# Altium footprint library QFN42.PcbLib: 1 footprints
Each footprint in its own frame and in the unit in brackets; x right, y up, seen from the top. Pads: shape width x height; smd on the part's side, far side on the other; paste and mask are expansions set on the pad; w line width, h text height; cw(c..) or ccw(c..) is an arc to the next point about the centre after c.
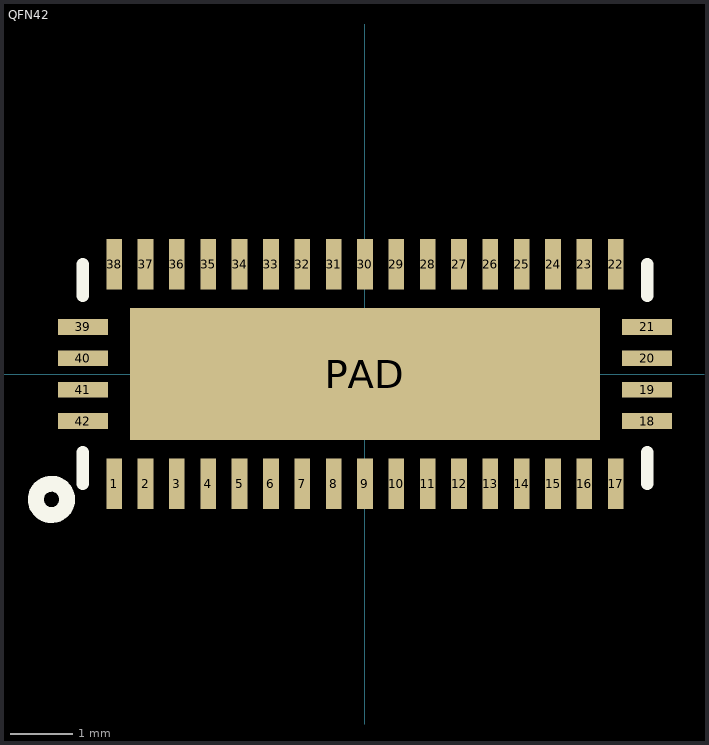
[diagram p0: the footprint, top view; thin cyan lines are the x and y axes]

## QFN42 [mm]
pads (43):
  rect 0.25x0.8 smd: 1(-4,-1.75) 2(-3.5,-1.75) 3(-3,-1.75) 4(-2.5,-1.75) 5(-2,-1.75) 6(-1.5,-1.75) 7(-1,-1.75) 8(-0.5,-1.75) 9(0,-1.75) 10(0.5,-1.75) 11(1,-1.75) 12(1.5,-1.75) 13(2,-1.75) 14(2.5,-1.75) 15(3,-1.75) 16(3.5,-1.75) 17(4,-1.75) 22(4,1.75) 23(3.5,1.75) 24(3,1.75) 25(2.5,1.75) 26(2,1.75) 27(1.5,1.75) 28(1,1.75) 29(0.5,1.75) 30(0,1.75) 31(-0.5,1.75) 32(-1,1.75) 33(-1.5,1.75) 34(-2,1.75) 35(-2.5,1.75) 36(-3,1.75) 37(-3.5,1.75) 38(-4,1.75)
  rect 0.8x0.25 smd: 18(4.5,-0.75) 19(4.5,-0.25) 20(4.5,0.25) 21(4.5,0.75) 39(-4.5,0.75) 40(-4.5,0.25) 41(-4.5,-0.25) 42(-4.5,-0.75)
  rect 7.5x2.1 smd paste-20: PAD(0,0)
Top Overlay:
  circle w0.254: c-5,-2 r0.25
  lines w0.2: -4.5,-1.75 -4.5,-1.25 ; -4.5,1.25 -4.5,1.75 ; 4.5,-1.75 4.5,-1.25 ; 4.5,1.25 4.5,1.75
Top Paste:
  rectangle: -3.5,-0.75 3.5,0.75
3D body: height 0.82, standoff -0.09, extent -4.52,-1.74 4.52,1.8